# EAGLE library part TEN-30 (library custom)
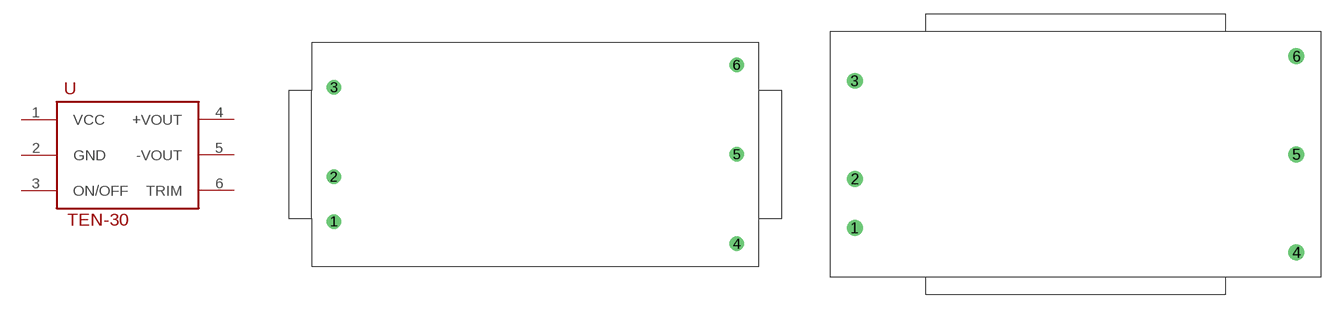
[diagram p4: symbol with the pads of TRACO2X1; footprints TRACO2X1, TRACO2X1_50W]

Designator prefix -

## TEN-3030W  [TRACO2X1]
1  VCC
2  GND
3  ON/OFF
4  +VOUT
5  -VOUT
6  TRIM

## TEN-3050W  [TRACO2X1_50W]
Pads as for TRACO2X1

## Footprint TRACO2X1 (pad centres in mm)
drill 1.1: 1 -22.86,-7.62; 2 -22.86,-2.54; 3 -22.86,7.62; 4 22.86,-10.16; 5 22.86,0; 6 22.86,10.16

## Footprint TRACO2X1_50W (pad centres in mm)
drill 1.1: 1 -22.86,-7.62; 2 -22.86,-2.54; 3 -22.86,7.62; 4 22.86,-10.16; 5 22.86,0; 6 22.86,10.16